# EAGLE library part XFMR_T82_RFC_FB (library NewSDR)
FT-82 Bifilar RFC Transformer with Feedback
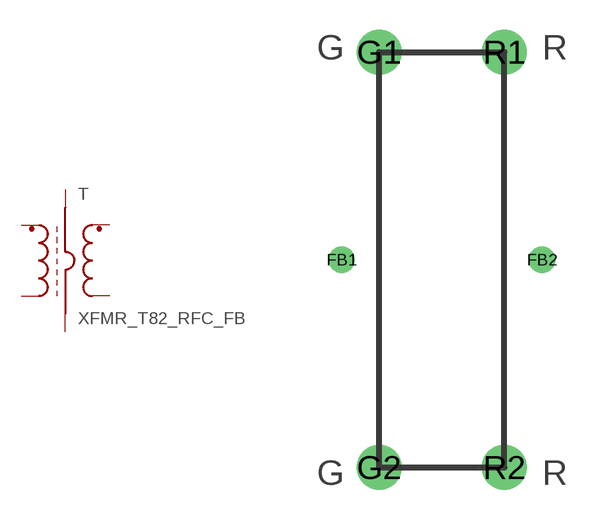
[diagram p81: symbol with the pads of FT82_CHOKE_FB; footprint FT82_CHOKE_FB]

Designator prefix T

## XFMR_T82_RFC_FB  [FT82_CHOKE_FB]
FB1  FB  pas
FB2  FBDOT  pas
G1  PRIDOT  pas
G2  PRI  pas
R1  SECDOT  pas
R2  SEC  pas

## Footprint FT82_CHOKE_FB (pad centres in mm)
FT-82 Bifilar RF Choke With Feedback
drill 0.813: FB1 -5.08,0; FB2 5.08,0
drill 1.524: G1 -3.175,10.541; G2 -3.175,-10.541; R1 3.175,10.541; R2 3.175,-10.541